# Altium footprint library DIODE GEN PURP 1KV 1A SMA.PcbLib: 3 footprints
Each footprint in its own frame and in the unit in brackets; x right, y up, seen from the top. Pads: shape width x height; smd on the part's side, far side on the other; paste and mask are expansions set on the pad; w line width, h text height; cw(c..) or ccw(c..) is an arc to the next point about the centre after c.
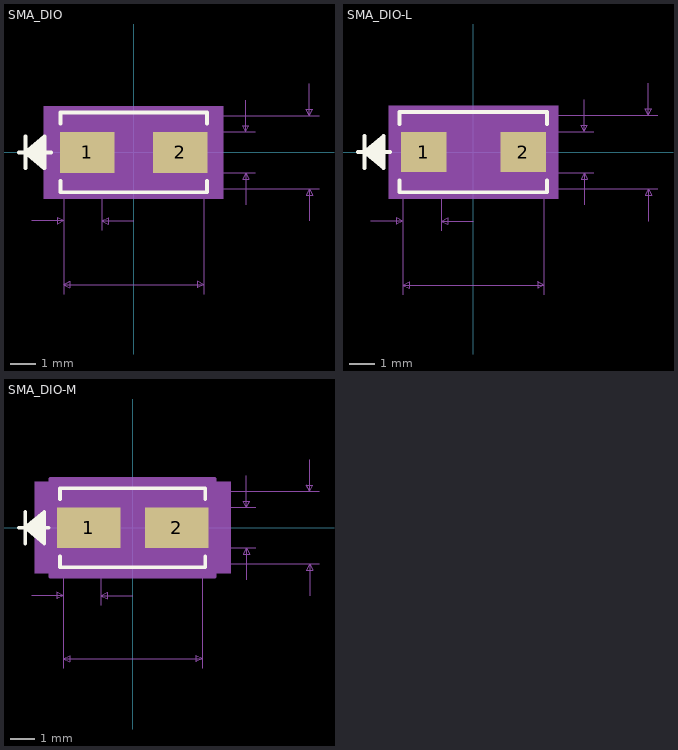
[diagram p0: the footprints below, top view; thin cyan lines are the x and y axes]

## SMA_DIO [mm]
pads (2):
  rect 2.18x1.63 smd paste+0 mask+0: 1(-1.857,0) 2(1.857,0)
Top Overlay:
  lines w0.152: -4.573,0 -3.303,0 ; -4.319,-0.635 -4.319,0.635 ; -3.557,-0.508 -4.319,0 ; -3.557,-0.381 -4.319,0 ; -3.557,-0.254 -4.319,0 ; -3.557,-0.127 -4.319,0 ; -3.557,0.127 -4.319,0 ; -3.557,0.254 -4.319,0 ; -3.557,0.381 -4.319,0 ; -3.557,0.508 -4.319,0 ; -2.922,-1.148 -2.922,-1.587 2.922,-1.587 2.922,-1.148 ; -2.922,1.148 -2.922,1.587 2.922,1.587 2.922,1.148 ; -4.319,0 -3.557,0.635 -3.557,-0.635 -4.319,0
Mechanical 5:
  region: 3.582,-1.841 -3.582,-1.841 -3.582,1.841 3.582,1.841
Mechanical 7:
  lines w0.025: -4.065,-2.73 -2.795,-2.73 ; -2.795,-5.651 -2.795,0 -2.795,-3.111 ; -1.275,-3.111 -1.275,0 ; -0.005,-2.73 -1.275,-2.73 ; 2.795,-5.651 2.795,0 ; 3.201,-1.46 7.392,-1.46 ; 3.201,-0.815 4.852,-0.815 ; 3.201,0.815 4.852,0.815 ; 3.201,1.46 7.392,1.46 ; 4.471,-2.085 4.471,-0.815 ; 4.471,2.085 4.471,0.815 ; 7.011,-2.73 7.011,-1.46 ; 7.011,2.73 7.011,1.46 ; -2.795,-5.27 2.795,-5.27 ; -2.795,-5.27 -2.541,-5.143 -2.541,-5.397 -2.795,-5.27 ; -2.795,-2.73 -3.049,-2.603 -3.049,-2.857 -2.795,-2.73 ; -1.275,-2.73 -1.021,-2.603 -1.021,-2.857 -1.275,-2.73 ; 2.795,-5.27 2.541,-5.143 2.541,-5.397 2.795,-5.27 ; 4.471,-0.815 4.344,-1.069 4.598,-1.069 4.471,-0.815 ; 4.471,0.815 4.344,1.069 4.598,1.069 4.471,0.815 ; 7.011,-1.46 6.884,-1.714 7.138,-1.714 7.011,-1.46 ; 7.011,1.46 6.884,1.714 7.138,1.714 7.011,1.46
  text "Default Padstyle: RX85p84Y64p17D0T" at -10.795,-8.445 h1.27
  text "Alt 1 Padstyle: OX60Y90D30P" at -8.572,-10.35 h1.27
  text "Alt 2 Padstyle: OX90Y60D30P" at -8.572,-12.255 h1.27
  text "0.064in/1.63mm" at 4.979,-0.318 h0.64
  text "0.115in/2.92mm" at 7.519,-0.318 h0.64
  text "0.22in/5.59mm" at -2.064,-6.413 h0.64
  text "0.06in/1.52mm" at -4.099,-3.873 h0.64
Mechanical 13:
  lines w0.025: -4.573,0 -3.303,0 ; -4.319,-0.635 -4.319,0.635 ; -3.557,-0.508 -4.319,0 ; -3.557,-0.381 -4.319,0 ; -3.557,-0.254 -4.319,0 ; -3.557,-0.127 -4.319,0 ; -3.557,0.127 -4.319,0 ; -3.557,0.254 -4.319,0 ; -3.557,0.381 -4.319,0 ; -3.557,0.508 -4.319,0 ; -4.319,0 -3.557,0.635 -3.557,-0.635 -4.319,0 ; -2.795,-1.46 2.795,-1.46 2.795,1.46 -2.795,1.46 -2.795,-1.46
Mechanical 15:
  region: -3.049,-1.069 -3.201,-1.069 -3.201,1.069 -3.049,1.069 -3.049,1.714 3.049,1.714 3.049,1.069 3.201,1.069 3.201,-1.069 3.049,-1.069 3.049,-1.714 -3.049,-1.714
  lines w0.152: -3.201,-1.069 -3.201,1.069 -3.049,1.069 -3.049,1.714 3.049,1.714 3.049,1.069 3.201,1.069 3.201,-1.069 3.049,-1.069 3.049,-1.714 -3.049,-1.714 -3.049,-1.069 -3.201,-1.069
3D body: height 0.25, standoff 0, extent 0,0 0.254,0.254

## SMA_DIO-L [mm]
pads (2):
  rect 1.799x1.579 smd paste+0 mask+0: 1(-1.971,0) 2(1.971,0)
Top Overlay:
  lines w0.152: -4.573,0 -3.303,0 ; -4.319,-0.635 -4.319,0.635 ; -3.557,-0.508 -4.319,0 ; -3.557,-0.381 -4.319,0 ; -3.557,-0.254 -4.319,0 ; -3.557,-0.127 -4.319,0 ; -3.557,0.127 -4.319,0 ; -3.557,0.254 -4.319,0 ; -3.557,0.381 -4.319,0 ; -3.557,0.508 -4.319,0 ; -2.922,-1.118 -2.922,-1.587 2.922,-1.587 2.922,-1.118 ; -2.922,1.118 -2.922,1.587 2.922,1.587 2.922,1.118 ; -4.319,0 -3.557,0.635 -3.557,-0.635 -4.319,0
Mechanical 5:
  region: 3.354,-1.841 -3.354,-1.841 -3.354,1.841 3.354,1.841
Mechanical 7:
  lines w0.025: -4.065,-2.73 -2.795,-2.73 ; -2.795,-5.651 -2.795,0 -2.795,-3.111 ; -1.275,-3.111 -1.275,0 ; -0.005,-2.73 -1.275,-2.73 ; 2.795,-5.651 2.795,0 ; 3.125,-1.46 7.316,-1.46 ; 3.125,-0.815 4.776,-0.815 ; 3.125,0.815 4.776,0.815 ; 3.125,1.46 7.316,1.46 ; 4.395,-2.085 4.395,-0.815 ; 4.395,2.085 4.395,0.815 ; 6.935,-2.73 6.935,-1.46 ; 6.935,2.73 6.935,1.46 ; -2.795,-5.27 2.795,-5.27 ; -2.795,-5.27 -2.541,-5.143 -2.541,-5.397 -2.795,-5.27 ; -2.795,-2.73 -3.049,-2.603 -3.049,-2.857 -2.795,-2.73 ; -1.275,-2.73 -1.021,-2.603 -1.021,-2.857 -1.275,-2.73 ; 2.795,-5.27 2.541,-5.143 2.541,-5.397 2.795,-5.27 ; 4.395,-0.815 4.268,-1.069 4.522,-1.069 4.395,-0.815 ; 4.395,0.815 4.268,1.069 4.522,1.069 4.395,0.815 ; 6.935,-1.46 6.808,-1.714 7.062,-1.714 6.935,-1.46 ; 6.935,1.46 6.808,1.714 7.062,1.714 6.935,1.46
  text "Default Padstyle: RX70p84Y62p17D0T" at -10.795,-8.445 h1.27
  text "Alt 1 Padstyle: OX60Y90D30P" at -8.572,-10.35 h1.27
  text "Alt 2 Padstyle: OX90Y60D30P" at -8.572,-12.255 h1.27
  text "0.064in/1.63mm" at 4.903,-0.318 h0.64
  text "0.115in/2.92mm" at 7.443,-0.318 h0.64
  text "0.22in/5.59mm" at -2.064,-6.413 h0.64
  text "0.06in/1.52mm" at -4.099,-3.873 h0.64
Mechanical 13:
  lines w0.025: -4.573,0 -3.303,0 ; -4.319,-0.635 -4.319,0.635 ; -3.557,-0.508 -4.319,0 ; -3.557,-0.381 -4.319,0 ; -3.557,-0.254 -4.319,0 ; -3.557,-0.127 -4.319,0 ; -3.557,0.127 -4.319,0 ; -3.557,0.254 -4.319,0 ; -3.557,0.381 -4.319,0 ; -3.557,0.508 -4.319,0 ; -4.319,0 -3.557,0.635 -3.557,-0.635 -4.319,0 ; -2.795,-1.46 2.795,-1.46 2.795,1.46 -2.795,1.46 -2.795,-1.46
Mechanical 15:
  region: -2.897,-0.917 -2.973,-0.917 -2.973,0.917 -2.897,0.917 -2.897,1.562 2.897,1.562 2.897,0.917 2.973,0.917 2.973,-0.917 2.897,-0.917 2.897,-1.562 -2.897,-1.562
  lines w0.152: -2.973,-0.917 -2.973,0.917 -2.897,0.917 -2.897,1.562 2.897,1.562 2.897,0.917 2.973,0.917 2.973,-0.917 2.897,-0.917 2.897,-1.562 -2.897,-1.562 -2.897,-0.917 -2.973,-0.917
3D body: height 0.25, standoff 0, extent 0,0 0.254,0.254

## SMA_DIO-M [mm]
pads (2):
  rect 2.561x1.63 smd paste+0 mask+0: 1(-1.768,0) 2(1.768,0)
Top Overlay:
  lines w0.152: -4.573,0 -3.382,0 ; -4.319,-0.635 -4.319,0.635 ; -3.557,-0.508 -4.319,0 ; -3.557,-0.381 -4.319,0 ; -3.557,-0.254 -4.319,0 ; -3.557,-0.127 -4.319,0 ; -3.557,0.127 -4.319,0 ; -3.557,0.254 -4.319,0 ; -3.557,0.381 -4.319,0 ; -3.557,0.508 -4.319,0 ; -2.922,-1.148 -2.922,-1.587 2.922,-1.587 2.922,-1.148 ; -2.922,1.148 -2.922,1.587 2.922,1.587 2.922,1.148 ; -4.319,0 -3.557,0.635 -3.557,-0.635 -4.319,0
Mechanical 5:
  region: 3.938,-1.841 -3.938,-1.841 -3.938,1.841 3.938,1.841
Mechanical 7:
  lines w0.025: -4.065,-2.73 -2.795,-2.73 ; -2.795,-5.651 -2.795,0 -2.795,-3.111 ; -1.275,-3.111 -1.275,0 ; -0.005,-2.73 -1.275,-2.73 ; 2.795,-5.651 2.795,0 ; 3.303,-1.46 7.494,-1.46 ; 3.303,-0.815 4.954,-0.815 ; 3.303,0.815 4.954,0.815 ; 3.303,1.46 7.494,1.46 ; 4.573,-2.085 4.573,-0.815 ; 4.573,2.085 4.573,0.815 ; 7.113,-2.73 7.113,-1.46 ; 7.113,2.73 7.113,1.46 ; -2.795,-5.27 2.795,-5.27 ; -2.795,-5.27 -2.541,-5.143 -2.541,-5.397 -2.795,-5.27 ; -2.795,-2.73 -3.049,-2.603 -3.049,-2.857 -2.795,-2.73 ; -1.275,-2.73 -1.021,-2.603 -1.021,-2.857 -1.275,-2.73 ; 2.795,-5.27 2.541,-5.143 2.541,-5.397 2.795,-5.27 ; 4.573,-0.815 4.446,-1.069 4.7,-1.069 4.573,-0.815 ; 4.573,0.815 4.446,1.069 4.7,1.069 4.573,0.815 ; 7.113,-1.46 6.986,-1.714 7.24,-1.714 7.113,-1.46 ; 7.113,1.46 6.986,1.714 7.24,1.714 7.113,1.46
  text "Default Padstyle: RX100p84Y64p17D0T" at -11.112,-8.445 h1.27
  text "Alt 1 Padstyle: OX60Y90D30P" at -8.572,-10.35 h1.27
  text "Alt 2 Padstyle: OX90Y60D30P" at -8.572,-12.255 h1.27
  text "0.064in/1.63mm" at 5.081,-0.318 h0.64
  text "0.115in/2.92mm" at 7.621,-0.318 h0.64
  text "0.22in/5.59mm" at -2.064,-6.413 h0.64
  text "0.06in/1.52mm" at -4.099,-3.873 h0.64
Mechanical 13:
  lines w0.025: -4.573,0 -3.303,0 ; -4.319,-0.635 -4.319,0.635 ; -3.557,-0.508 -4.319,0 ; -3.557,-0.381 -4.319,0 ; -3.557,-0.254 -4.319,0 ; -3.557,-0.127 -4.319,0 ; -3.557,0.127 -4.319,0 ; -3.557,0.254 -4.319,0 ; -3.557,0.381 -4.319,0 ; -3.557,0.508 -4.319,0 ; -4.319,0 -3.557,0.635 -3.557,-0.635 -4.319,0 ; -2.795,-1.46 2.795,-1.46 2.795,1.46 -2.795,1.46 -2.795,-1.46
Mechanical 15:
  region: -3.303,-1.323 -3.557,-1.323 -3.557,1.323 -3.303,1.323 -3.303,1.968 3.303,1.968 3.303,1.323 3.557,1.323 3.557,-1.323 3.303,-1.323 3.303,-1.968 -3.303,-1.968
  lines w0.152: -3.557,-1.323 -3.557,1.323 -3.303,1.323 -3.303,1.968 3.303,1.968 3.303,1.323 3.557,1.323 3.557,-1.323 3.303,-1.323 3.303,-1.968 -3.303,-1.968 -3.303,-1.323 -3.557,-1.323
3D body: height 0.25, standoff 0, extent 0,0 0.254,0.254